# Altium schematic symbol library USB-RS485(CH340).Schlib: 1 symbol
Pins are listed as number, name and electrical type; pins without a type are passive.

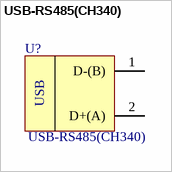
[diagram p0: symbol USB-RS485(CH340)]

## USB-RS485(CH340)
designator U?
Назначение: Преобразователь интерфейсов USB-RS485; Наименование: USB-RS485(CH340)
footprint USB-RS485(CH340)
pins: 1 D-(B), 2 D+(A)
text: USB